# EAGLE library part ST26C32ABDR (library ST Microelctronics_By_element14_Batch_1)
CMOS quad 3-state differential line receiver
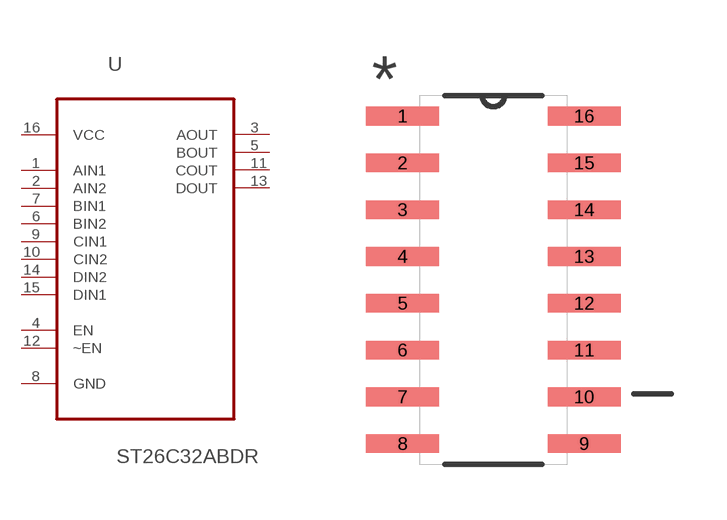
[diagram p300: symbol with the pads of SOIC127P600X175-16N; footprint SOIC127P600X175-16N]

Designator prefix U

## ST26C32ABDR (MPN: ST26C32ABDR; OC_FARNELL: -; OC_NEWARK: 89K0998; PACKAGE: SOIC-16; SUPPLIER: STMICROELECTRONICS)  [SOIC127P600X175-16N]
1  AIN1  in
2  AIN2  in
3  AOUT  out
4  EN  in
5  BOUT  out
6  BIN2  in
7  BIN1  in
8  GND  pas
9  CIN1  in
10  CIN2  in
11  COUT  out
12  ~EN  in
13  DOUT  out
14  DIN2  in
15  DIN1  in
16  VCC  pwr

## Footprint SOIC127P600X175-16N (pad centres in mm)
smd 1.981 x 0.508: 1 -2.464,4.445; 2 -2.464,3.175; 3 -2.464,1.905; 4 -2.464,0.635; 5 -2.464,-0.635; 6 -2.464,-1.905; 7 -2.464,-3.175; 8 -2.464,-4.445; 9 2.464,-4.445; 10 2.464,-3.175; 11 2.464,-1.905; 12 2.464,-0.635; 13 2.464,0.635; 14 2.464,1.905; 15 2.464,3.175; 16 2.464,4.445